# EAGLE library part FLASH (library FlashMem)
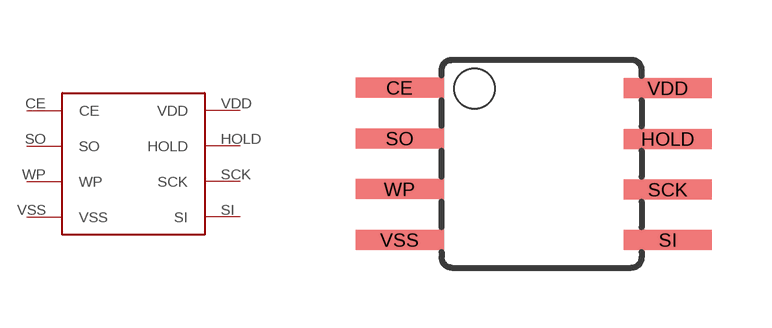
[diagram p0: symbol with the pads of SOIC8; footprint SOIC8]

Designator prefix -

## FLASH  [SOIC8]
CE  CE
HOLD  HOLD
SCK  SCK
SI  SI
SO  SO
VDD  VDD
VSS  VSS
WP  WP

## Footprint SOIC8 (pad centres in mm)
Wide Plastic Gull Wing Small Outline Package
smd 2.2 x 0.5: CE 1.526,4.445; HOLD 8.234,3.165; SCK 8.234,1.895; SI 8.234,0.635; SO 1.526,3.175; VDD 8.234,4.435; VSS 1.526,0.635; WP 1.526,1.905